# Altium schematic symbol library LT3030HUFDPBF.SchLib: 2 symbols
Pins are listed as number, name and electrical type; pins without a type are passive.

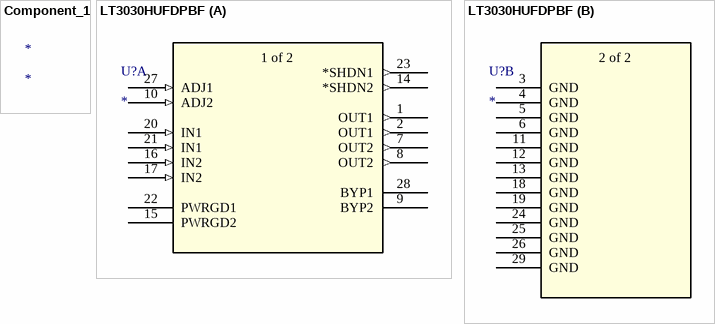
[diagram p0: symbols Component_1 to LT3030HUFDPBF]

## Component_1
designator *

## LT3030HUFDPBF
designator U?
No Description Available; Mfr_Name: Analog Devices Inc; RefDes: RefDes; Type: Type
footprint QFN-28_UFD_LIT
part A pins: 1 OUT1 (out), 2 OUT1 (out), 7 OUT2 (out), 8 OUT2 (out), 9 BYP2, 10 ADJ2 (in), 14 *SHDN2 (out), 15 PWRGD2 (power), 16 IN2 (in), 17 IN2 (in), 20 IN1 (in), 21 IN1 (in), 22 PWRGD1 (power), 23 *SHDN1 (out), 27 ADJ1 (in), 28 BYP1
part B pins: 3 GND (power), 4 GND (power), 5 GND (power), 6 GND (power), 11 GND (power), 12 GND (power), 13 GND (power), 18 GND (power), 19 GND (power), 24 GND (power), 25 GND (power), 26 GND (power), 29 GND (power)
part A text: 1 of 2
part B text: 2 of 2